# EAGLE library part BIGALU (library buslogic)
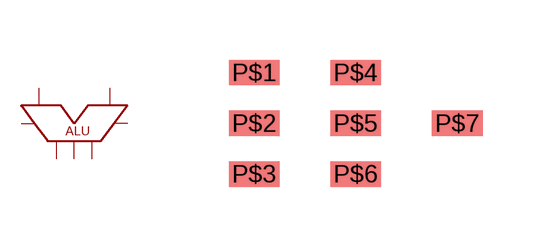
[diagram p1: symbol with the pads of 7PIN; footprint 7PIN]

Designator prefix -

## BIGALU  [7PIN]
P$1  A
P$2  B
P$3  F
P$4  HI
P$5  LO
P$6  OF
P$7  Z

## Footprint 7PIN (pad centres in mm)
smd 1.27 x 0.635: P$1 -2.54,1.27; P$2 -2.54,0; P$3 -2.54,-1.27; P$4 0,1.27; P$5 0,0; P$6 0,-1.27; P$7 2.54,0